# Altium schematic symbol library sm91502ala-e.SchLib: 1 symbol
Pins are listed as number, name and electrical type; pins without a type are passive.

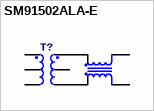
[diagram p0: symbol SM91502ALA-E]

## SM91502ALA-E
designator T?
200µH LAN Pulse Transformer 1CT:1CT Surface Mount
pins: 1, 2, 3, 4, 5, 6